# EAGLE library part LM324ADR (library work)
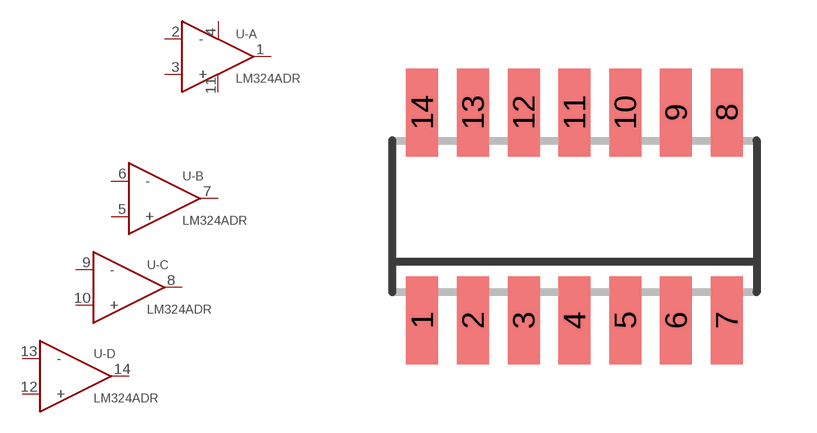
[diagram p64: symbol with the pads of SOIC14; footprint SOIC14]

Designator prefix U; gates -A=OPA4227UA-A -B=OPA4227-B -C=OPA4227-B -D=OPA4227-B

## LM324ADR  [SOIC14]
1  -A:OUT
2  -A:-
3  -A:+
4  -A:V+
5  -B:+
6  -B:-
7  -B:OUT
8  -C:OUT
9  -C:-
10  -C:+
11  -A:V-
12  -D:+
13  -D:-
14  -D:OUT

## Footprint SOIC14 (pad centres in mm)
smd 0.8 x 2.2: 1 -3.81,-2.6; 2 -2.54,-2.6; 3 -1.27,-2.6; 4 0,-2.6; 5 1.27,-2.6; 6 2.54,-2.6; 7 3.81,-2.6; 8 3.81,2.6; 9 2.54,2.6; 10 1.27,2.6; 11 0,2.6; 12 -1.27,2.6; 13 -2.54,2.6; 14 -3.81,2.6